# Altium footprint library Transistor.PcbLib: 227 footprints (part 13 of 15)
Each footprint in its own frame and in the unit in brackets; x right, y up, seen from the top. Pads: shape width x height; smd on the part's side, far side on the other; paste and mask are expansions set on the pad; w line width, h text height; cw(c..) or ccw(c..) is an arc to the next point about the centre after c.
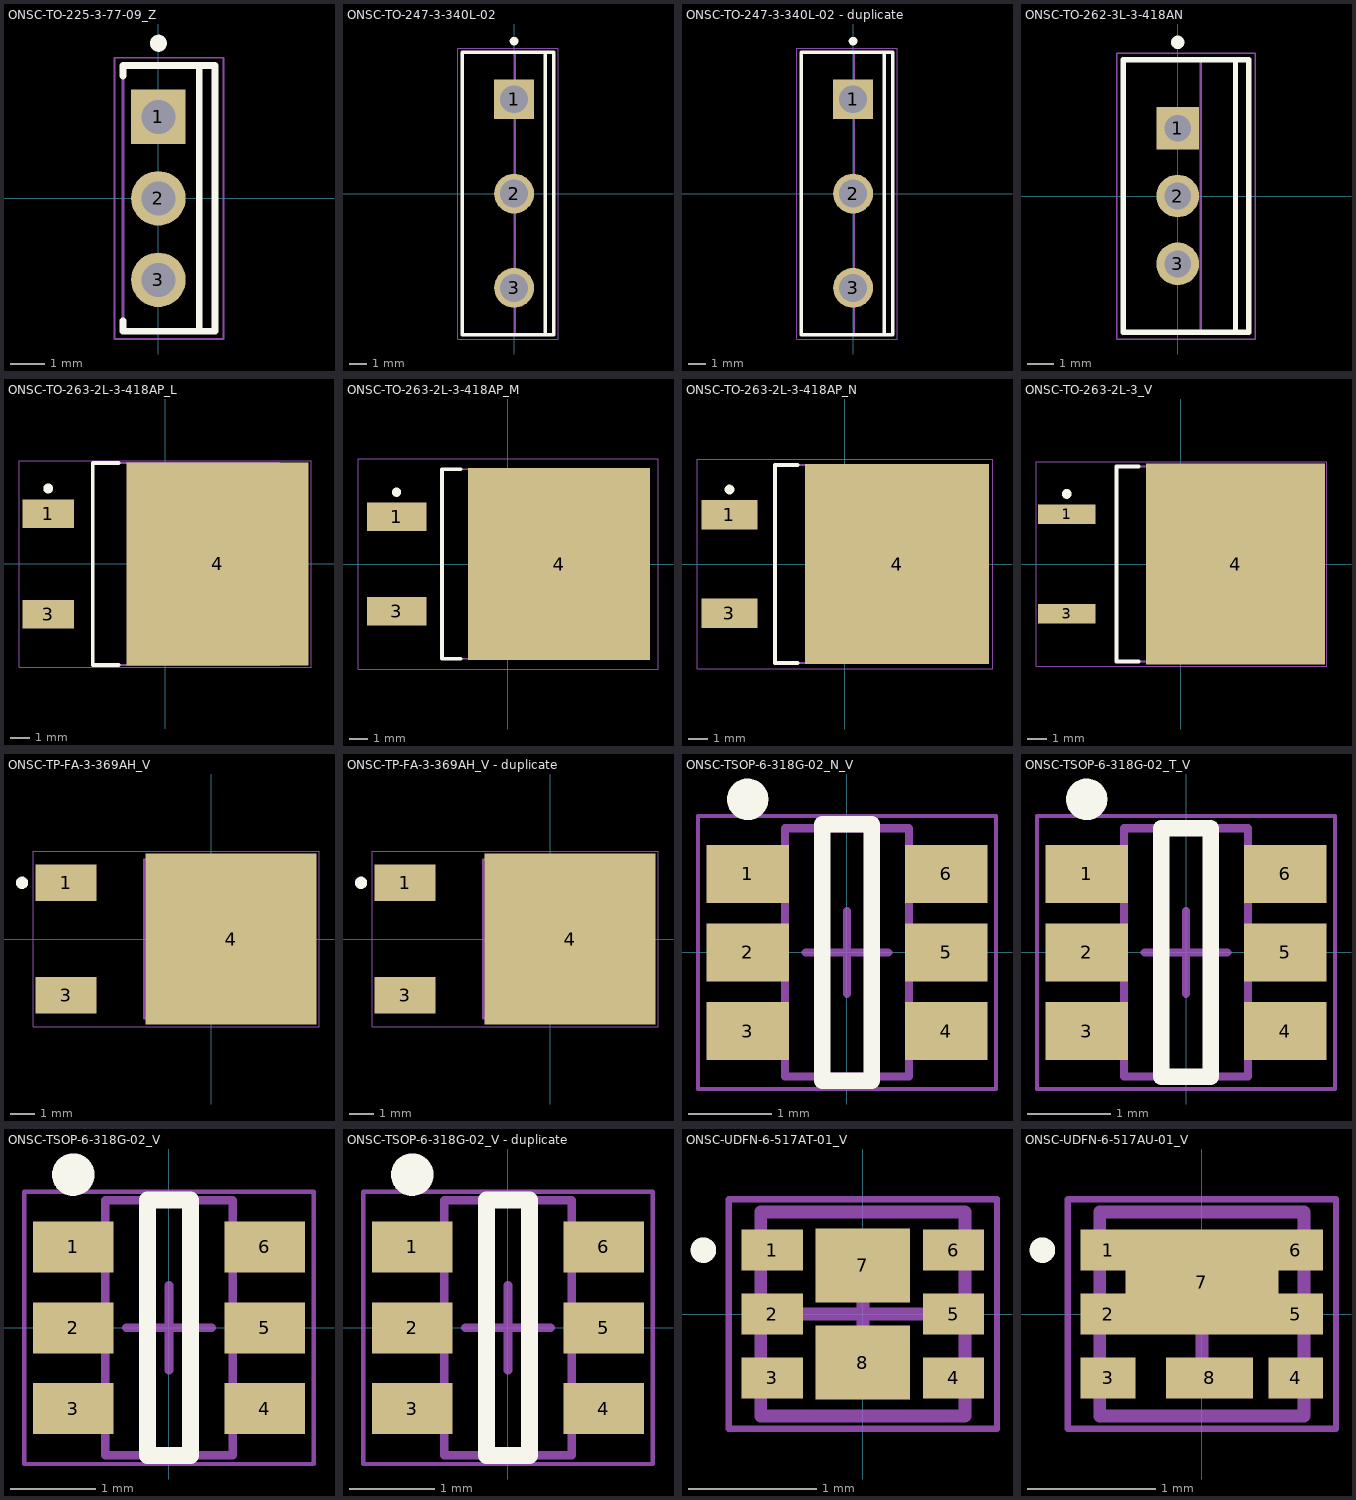
[diagram p12: the footprints below, top view; thin cyan lines are the x and y axes]

## ONSC-TO-225-3-77-09_Z [mm] "FM, 3-Leads, Body 7.75x2.7mm, Pitch 2.39mm"
height 13.45
pads (3):
  rect 1.6x1.6 hole 1: 1(0,2.39)
  round 1.6 hole 1: 2(0,0) 3(0,-2.39)
Top Overlay:
  circle w0.25: c0,4.55 r0.125
  lines w0.2: -1.04,-3.59 -1.04,-3.9 1.66,-3.9 1.66,3.9 -1.04,3.9 -1.04,3.59 ; 1.2,-3.9 1.2,3.9
Mechanical 13:
  lines w0.1: 1.66,-3.875 1.66,3.875 ; 1.66,-3.875 -1.04,-3.875 -1.04,3.875 1.66,3.875 ; 1.66,-3.875 1.66,3.875
Mechanical 15:
  lines w0.05: -1.29,-4.125 1.91,-4.125 1.91,4.125 -1.29,4.125 -1.29,-4.125
  lines w0.1: -0.5,0 0.5,0 ; 0,-0.5 0,0.5
3D body: height 13.45, standoff 13.45, extent 1.66,-3.8 1.66,3.8
3D body: height 13.45, standoff 1.27, extent -1.04,-3.875 1.66,3.875
3D body: height 0, standoff -1.6, extent -0.255,-2.77 0.255,-2.01
3D body: height 1.27, standoff 0, extent -0.255,-2.94 0.255,-1.84
3D body: height 0, standoff -1.6, extent -0.255,-0.38 0.255,0.38
3D body: height 1.27, standoff 0, extent -0.255,-0.55 0.255,0.55
3D body: height 0, standoff -1.6, extent -0.255,2.01 0.255,2.77
3D body: height 1.27, standoff 0, extent -0.255,1.84 0.255,2.94

## ONSC-TO-247-3-340L-02 [mm] "FM, 3-Leads, Body 16.3x5.3mm, Pitch 5.45mm"
height 25.58
pads (3):
  rect 2.3x2.3 hole 1.6: 1(0,5.45)
  round 2.3 hole 1.6: 2(0,0) 3(0,-5.45)
Top Overlay:
  circle w0.25: c0,8.8 r0.125
  lines w0.2: 1.8,-8.15 1.8,8.15 ; -3,-8.15 2.3,-8.15 2.3,8.15 -3,8.15 -3,-8.15
Mechanical 13:
  lines w0.1: 0.05,-8.15 0.05,8.15 ; -3,-8.15 -3,8.15 2.3,8.15 2.3,-8.15 -3,-8.15
Mechanical 15:
  lines w0.05: -3.25,-8.4 -3.25,8.4 2.55,8.4 2.55,-8.4 -3.25,-8.4
  lines w0.1: -0.5,0 0.5,0 ; 0,-0.5 0,0.5
3D body: height 4.5, standoff 0, extent -0.3,-1.5 0.3,1.5
3D body: height 0, standoff -1.6, extent -0.3,-0.6 0.3,0.6
3D body: height 4.5, standoff 0, extent -0.3,3.95 0.3,6.95
3D body: height 0, standoff -1.6, extent -0.3,4.85 0.3,6.05
3D body: height 4.5, standoff 0, extent -0.3,-6.95 0.3,-3.95
3D body: height 0, standoff -1.6, extent -0.3,-6.05 0.3,-4.85
3D body: height 25.58, standoff 4.5, extent -3,-8.15 2.3,8.15

## ONSC-TO-247-3-340L-02 - duplicate [mm] "FM, 3-Leads, Body 16.3x5.3mm, Pitch 5.45mm"
height 25.58
pads (3):
  rect 2.3x2.3 hole 1.6: 1(0,5.45)
  round 2.3 hole 1.6: 2(0,0) 3(0,-5.45)
Top Overlay:
  circle w0.25: c0,8.8 r0.125
  lines w0.2: 1.8,-8.15 1.8,8.15 ; -3,-8.15 2.3,-8.15 2.3,8.15 -3,8.15 -3,-8.15
Mechanical 13:
  lines w0.1: 0.05,-8.15 0.05,8.15 ; -3,-8.15 -3,8.15 2.3,8.15 2.3,-8.15 -3,-8.15
Mechanical 15:
  lines w0.05: -3.25,-8.4 -3.25,8.4 2.55,8.4 2.55,-8.4 -3.25,-8.4
  lines w0.1: -0.5,0 0.5,0 ; 0,-0.5 0,0.5
3D body: height 4.5, standoff 0, extent -0.3,-1.5 0.3,1.5
3D body: height 0, standoff -1.6, extent -0.3,-0.6 0.3,0.6
3D body: height 4.5, standoff 0, extent -0.3,3.95 0.3,6.95
3D body: height 0, standoff -1.6, extent -0.3,4.85 0.3,6.05
3D body: height 4.5, standoff 0, extent -0.3,-6.95 0.3,-3.95
3D body: height 0, standoff -1.6, extent -0.3,-6.05 0.3,-4.85
3D body: height 25.58, standoff 4.5, extent -3,-8.15 2.3,8.15

## ONSC-TO-262-3L-3-418AN [mm] "FM, 3-Leads, Body 10.2x4.7mm, Pitch 2.54mm"
height 13.89
pads (3):
  rect 1.6x1.6 hole 1: 1(0,2.54)
  round 1.6 hole 1: 2(0,0) 3(0,-2.54)
Top Overlay:
  circle w0.25: c0,5.75 r0.125
  lines w0.2: 2.16,-5.1 2.16,5.1 ; -2.04,-5.1 -2.04,5.1 2.66,5.1 2.66,-5.1 -2.04,-5.1
Mechanical 13:
  lines w0.1: 0.86,-5.1 0.86,5.1 ; -2.04,-5.1 2.66,-5.1 2.66,5.1 -2.04,5.1 -2.04,-5.1
Mechanical 15:
  lines w0.05: -2.29,-5.35 2.91,-5.35 2.91,5.35 -2.29,5.35 -2.29,-5.35
  lines w0.1: -0.5,0 0.5,0 ; 0,-0.5 0,0.5
3D body: height 13.89, standoff 12.69, extent 0.86,-5 2.66,5
3D body: height 12.69, standoff 2.8, extent -2.04,-5.1 2.66,5.1
3D body: height 0, standoff -1.6, extent -0.265,-2.94 0.265,-2.14
3D body: height 2.8, standoff 0, extent -0.265,-3.275 0.265,-1.805
3D body: height 0, standoff -1.6, extent -0.265,-0.4 0.265,0.4
3D body: height 2.8, standoff 0, extent -0.265,-0.735 0.265,0.735
3D body: height 0, standoff -1.6, extent -0.265,2.14 0.265,2.94
3D body: height 2.8, standoff 0, extent -0.265,1.805 0.265,3.275

## ONSC-TO-263-2L-3-418AP_L [mm] "DPAK, 3-Leads, Body 10.2x9.4mm, Pitch 2.54mm, IPC High Density"
height 4.96
pads (3):
  rect 2.6x1.45 smd: 1(-5.9,2.54) 3(-5.9,-2.54)
  rect 9.2x10.25 smd: 4(2.65,0)
Top Overlay:
  circle w0.25: c-5.9,3.815 r0.125
  lines w0.2: -2.35,-5.1 -3.65,-5.1 -3.65,5.1 -2.35,5.1
Mechanical 13:
  lines w0.1: -3.65,-5.1 5.75,-5.1 5.75,5.1 -3.65,5.1 -3.65,-5.1
Mechanical 15:
  lines w0.05: -7.375,-5.225 7.375,-5.225 7.375,5.225 -7.375,5.225 -7.375,-5.225
  lines w0.1: -0.5,0 0.5,0 ; 0,-0.5 0,0.5
3D body: height 4.96, standoff 0.25, extent -3.65,-5.1 5.75,5.1

## ONSC-TO-263-2L-3-418AP_M [mm] "DPAK, 3-Leads, Body 10.2x9.4mm, Pitch 2.54mm, IPC Low Density"
height 4.96
pads (3):
  rect 3.2x1.55 smd: 1(-6,2.54) 3(-6,-2.54)
  rect 9.8x10.35 smd: 4(2.75,0)
Top Overlay:
  circle w0.25: c-6,3.865 r0.125
  lines w0.2: -2.55,-5.1 -3.55,-5.1 -3.55,5.1 -2.55,5.1
Mechanical 13:
  lines w0.1: -3.55,-5.1 5.85,-5.1 5.85,5.1 -3.55,5.1 -3.55,-5.1
Mechanical 15:
  lines w0.05: -8.075,-5.675 8.075,-5.675 8.075,5.675 -8.075,5.675 -8.075,-5.675
  lines w0.1: -0.5,0 0.5,0 ; 0,-0.5 0,0.5
3D body: height 4.96, standoff 0.25, extent -3.55,-5.1 5.85,5.1

## ONSC-TO-263-2L-3-418AP_N [mm] "DPAK, 3-Leads, Body 10.2x9.4mm, Pitch 2.54mm, IPC Medium Density"
height 4.96
pads (3):
  rect 2.9x1.5 smd: 1(-5.95,2.54) 3(-5.95,-2.54)
  rect 9.5x10.3 smd: 4(2.7,0)
Top Overlay:
  circle w0.25: c-5.95,3.84 r0.125
  lines w0.2: -2.45,-5.1 -3.6,-5.1 -3.6,5.1 -2.45,5.1
Mechanical 13:
  lines w0.1: -3.6,-5.1 5.8,-5.1 5.8,5.1 -3.6,5.1 -3.6,-5.1
Mechanical 15:
  lines w0.05: -7.625,-5.4 7.625,-5.4 7.625,5.4 -7.625,5.4 -7.625,-5.4
  lines w0.1: -0.5,0 0.5,0 ; 0,-0.5 0,0.5
3D body: height 4.96, standoff 0.25, extent -3.6,-5.1 5.8,5.1

## ONSC-TO-263-2L-3_V [mm] "FM, 3-Leads, Body 10x9.2mm, Pitch 2.54mm"
height 4.7
pads (3):
  rect 2.95x1 smd: 1(-5.85,2.54) 3(-5.85,-2.54)
  rect 9.15x10.3 smd: 4(2.8,0)
Top Overlay:
  circle w0.25: c-5.85,3.59 r0.125
  lines w0.2: -2.175,-5 -3.3,-5 -3.3,5 -2.175,5
Mechanical 13:
  lines w0.1: -3.3,-5 5.9,-5 5.9,5 -3.3,5 -3.3,-5
Mechanical 15:
  lines w0.05: -7.425,-5.25 7.475,-5.25 7.475,5.25 -7.425,5.25 -7.425,-5.25
  lines w0.1: -0.5,0 0.5,0 ; 0,-0.5 0,0.5
3D body: height 4.7, standoff 0, extent -3.3,-5 5.9,5

## ONSC-TP-FA-3-369AH_V [mm] "DPAK, 3-Leads, Body 6.5x5.5mm, Pitch 2.3mm"
height 2.5
pads (3):
  rect 2.5x1.5 smd: 1(-5.95,2.3) 3(-5.95,-2.3)
  rect 7x7 smd: 4(0.8,0)
Top Overlay:
  circle w0.25: c-7.75,2.3 r0.125
Mechanical 13:
  lines w0.1: -2.75,-3.25 2.75,-3.25 2.75,3.25 -2.75,3.25 -2.75,-3.25
Mechanical 15:
  lines w0.05: -7.3,-3.6 4.4,-3.6 4.4,3.6 -7.3,3.6 -7.3,-3.6
  lines w0.1: -0.5,0 0.5,0 ; 0,-0.5 0,0.5
3D body: height 2.5, standoff 0, extent -2.75,-3.25 2.75,3.25

## ONSC-TP-FA-3-369AH_V - duplicate [mm] "DPAK, 3-Leads, Body 6.5x5.5mm, Pitch 2.3mm"
height 2.5
pads (3):
  rect 2.5x1.5 smd: 1(-5.95,2.3) 3(-5.95,-2.3)
  rect 7x7 smd: 4(0.8,0)
Top Overlay:
  circle w0.25: c-7.75,2.3 r0.125
Mechanical 13:
  lines w0.1: -2.75,-3.25 2.75,-3.25 2.75,3.25 -2.75,3.25 -2.75,-3.25
Mechanical 15:
  lines w0.05: -7.3,-3.6 4.4,-3.6 4.4,3.6 -7.3,3.6 -7.3,-3.6
  lines w0.1: -0.5,0 0.5,0 ; 0,-0.5 0,0.5
3D body: height 2.5, standoff 0, extent -2.75,-3.25 2.75,3.25

## ONSC-TSOP-6-318G-02_N_V [mm] "TSOP, 6-Leads, Body 3x1.5mm, Pitch 0.95mm"
height 1.1
pads (6):
  rect 1x0.7 smd: 1(-1.2,0.95) 2(-1.2,0) 3(-1.2,-0.95) 4(1.2,-0.95) 5(1.2,0) 6(1.2,0.95)
Top Overlay:
  circle w0.25: c-1.2,1.85 r0.125
  lines w0.2: -0.3,-1.55 0.3,-1.55 0.3,1.55 -0.3,1.55 -0.3,-1.55
Mechanical 13:
  lines w0.1: -0.75,-1.5 0.75,-1.5 0.75,1.5 -0.75,1.5 -0.75,-1.5
Mechanical 15:
  lines w0.05: -1.8,-1.65 1.8,-1.65 1.8,1.65 -1.8,1.65 -1.8,-1.65
  lines w0.1: -0.5,0 0.5,0 ; 0,-0.5 0,0.5
3D body: height 1.1, standoff 0.01, extent -0.75,-1.5 0.75,1.5

## ONSC-TSOP-6-318G-02_T_V [mm] "SOP, 6-Leads, Body 3x1.5mm, Pitch 0.95mm"
height 1.1
pads (6):
  rect 1x0.7 smd: 1(-1.2,0.95) 2(-1.2,0) 3(-1.2,-0.95) 4(1.2,-0.95) 5(1.2,0) 6(1.2,0.95)
Top Overlay:
  circle w0.25: c-1.2,1.85 r0.125
  lines w0.2: -0.3,-1.5 -0.3,1.5 0.3,1.5 0.3,-1.5 -0.3,-1.5
Mechanical 13:
  lines w0.1: -0.75,-1.5 0.75,-1.5 0.75,1.5 -0.75,1.5 -0.75,-1.5
Mechanical 15:
  lines w0.05: -1.8,-1.65 1.8,-1.65 1.8,1.65 -1.8,1.65 -1.8,-1.65
  lines w0.1: -0.5,0 0.5,0 ; 0,-0.5 0,0.5
3D body: height 1.1, standoff 0.01, extent -0.75,-1.5 0.75,1.5

## ONSC-TSOP-6-318G-02_V [mm] "SOP, 6-Leads, Body 3x1.5mm, Pitch 0.95mm"
height 1.1
pads (6):
  rect 0.95x0.6 smd: 1(-1.125,0.95) 2(-1.125,0) 3(-1.125,-0.95) 4(1.125,-0.95) 5(1.125,0) 6(1.125,0.95)
Top Overlay:
  circle w0.25: c-1.125,1.8 r0.125
  lines w0.2: -0.25,-1.5 -0.25,1.5 0.25,1.5 0.25,-1.5 -0.25,-1.5
Mechanical 13:
  lines w0.1: -0.75,-1.5 -0.75,1.5 0.75,1.5 0.75,-1.5 -0.75,-1.5
Mechanical 15:
  lines w0.05: -1.7,-1.6 -1.7,1.6 1.7,1.6 1.7,-1.6 -1.7,-1.6
  lines w0.1: -0.5,0 0.5,0 ; 0,-0.5 0,0.5
3D body: height 1.1, standoff 0.01, extent -0.75,-1.5 0.75,1.5

## ONSC-TSOP-6-318G-02_V - duplicate [mm] "SOP, 6-Leads, Body 3x1.5mm, Pitch 0.95mm"
height 1.1
pads (6):
  rect 0.95x0.6 smd: 1(-1.125,0.95) 2(-1.125,0) 3(-1.125,-0.95) 4(1.125,-0.95) 5(1.125,0) 6(1.125,0.95)
Top Overlay:
  circle w0.25: c-1.125,1.8 r0.125
  lines w0.2: -0.25,-1.5 -0.25,1.5 0.25,1.5 0.25,-1.5 -0.25,-1.5
Mechanical 13:
  lines w0.1: -0.75,-1.5 -0.75,1.5 0.75,1.5 0.75,-1.5 -0.75,-1.5
Mechanical 15:
  lines w0.05: -1.7,-1.6 -1.7,1.6 1.7,1.6 1.7,-1.6 -1.7,-1.6
  lines w0.1: -0.5,0 0.5,0 ; 0,-0.5 0,0.5
3D body: height 1.1, standoff 0.01, extent -0.75,-1.5 0.75,1.5

## ONSC-UDFN-6-517AT-01_V [mm] "SON, 6-Leads, Body 1.6x1.6mm, Pitch 0.5mm"
height 0.55
pads (8):
  rect 0.48x0.32 smd: 1(-0.71,0.5) 2(-0.71,0) 3(-0.71,-0.5) 4(0.71,-0.5) 5(0.71,0) 6(0.71,0.5)
  rect 0.74x0.58 smd: 7(0,0.38) 8(0,-0.38)
Top Overlay:
  circle w0.1: c-1.25,0.5 r0.05
Mechanical 13:
  lines w0.1: -0.8,-0.8 -0.8,0.8 0.8,0.8 0.8,-0.8 -0.8,-0.8
Mechanical 15:
  lines w0.05: -1.05,-0.9 -1.05,0.9 1.05,0.9 1.05,-0.9 -1.05,-0.9
  lines w0.1: -0.5,0 0.5,0 ; 0,-0.5 0,0.5
3D body: height 0.55, standoff 0, extent -0.8,-0.8 0.8,0.8

## ONSC-UDFN-6-517AU-01_V [mm] "SON, 6-Leads, Body 1.6x1.6mm, Pitch 0.5mm"
height 0.55
pads (8):
  rect 0.43x0.32 smd: 1(-0.735,0.5) 2(-0.735,0) 3(-0.735,-0.5) 4(0.735,-0.5) 5(0.735,0) 6(0.735,0.5)
  rect 1.2x0.82 smd: 7(0,0.25)
  rect 0.68x0.32 smd: 8(0.06,-0.5)
Top Overlay:
  circle w0.1: c-1.25,0.5 r0.05
Mechanical 13:
  lines w0.1: -0.8,-0.8 -0.8,0.8 0.8,0.8 0.8,-0.8 -0.8,-0.8
Mechanical 15:
  lines w0.05: -1.05,-0.9 1.05,-0.9 1.05,0.9 -1.05,0.9 -1.05,-0.9
  lines w0.1: -0.5,0 0.5,0 ; 0,-0.5 0,0.5
3D body: height 0.55, standoff 0, extent -0.8,-0.8 0.8,0.8